# Altium schematic symbol library MX25L3206EM2I-12G.SchLib: 1 symbol
Pins are listed as number, name and electrical type; pins without a type are passive.

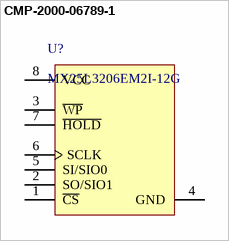
[diagram p0: symbol CMP-2000-06789-1]

## CMP-2000-06789-1
designator U?, comment MX25L3206EM2I-12G
CMOS Serial Flash, 32 MBit, 86 MHz, 2.7 to 3.6 V, -40 to 85 degC, 8-Pin SOP, RoHS, Tube; Manufacturer: Macronix; Memory Size: 32M(32Mx1,16Mx2); Interface: SPISerial; Memory Type: FLASH-NOR; 3D Model: MX25L3206E8-SOP.ibis; Other Names: 1092-1132; Speed: 86MHz; Voltage - Supply: 2.7V~3.6V; Dynamic Catalog: SerialFlashMX25xxx0506; Datasheet Version: Rev. 1.5, 12/2013; Standard Package: 98; Manufacturer URL: http://www.macronix.com/en-us/Pages/default.aspx; Series: MX25xxx05/06; Supplier Device Package: 8-SOP; Package / Case: 8-SOIC(0.209",5.30mmWidth); Category: IntegratedCircuits(ICs); Format - Memory: FLASH; Package Reference: SOP-8; Packaging: Tube; Mounting Technology: SurfaceMount; Family: Memory; Package Description: 8-Pin Small Outline Package, Body 5.23 x 5.28 mm, Pitch 1.27 mm; Datasheet URL: http://www.macronix.com/Lists/Datasheet/Attachments/6181/MX25L3206E,%203V,%2032Mb,%20v1.5.pdf; Operating Temperature: -40°C~85°C
footprint MXIC-SOP-8_L (SOP, 8-Leads, Body 5.4x5.3mm, Pitch 1.27mm, IPC High Density)
footprint MXIC-SOP-8_M (SOP, 8-Leads, Body 5.4x5.3mm, Pitch 1.27mm, IPC Low Density)
footprint MXIC-SOP-8_N (SOP, 8-Leads, Body 5.4x5.3mm, Pitch 1.27mm, IPC Medium Density)
pins: 1 ~{CS} "Chip Select", 2 SO/SIO1, 3 ~{WP} "Write protection", 4 GND (power) "Ground", 5 SI/SIO0, 6 SCLK "Clock Input", 7 ~{HOLD} "Hold, to pause the device without deselecting the device", 8 VCC (power) "+ 3.3V Power Supply"